# Altium integrated library USBtoTTL.IntLib: 9 symbols
Pins are listed as number, name and electrical type; pins without a type are passive.

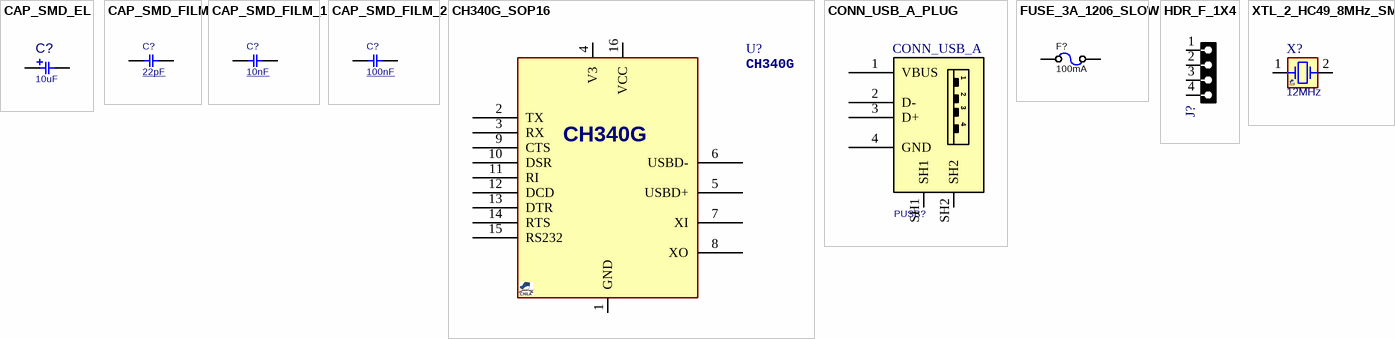
[diagram p0: symbols CAP_SMD_EL to XTL_2_HC49_8MHz_SMD]

## CAP_SMD_EL
designator C?, comment 10uF
CAP, THD, ELEC,; MANF_P#: MANF_PART#; PARAM2: -V; DESC: DESCRIPTION; DIST#: MOUSER; PARAM: 20%; PRICE: 10= -$; MANF: MANF; ASSEMBLY: ASSEMBLY; VALUE: 10uF
footprint C_EL_8 (Electrolytic Cap, Size E, Size F, 8.3X10)
footprint C_EL_4 (Electrolytic Cap, D: 4.3mm, Size B)
footprint C_EL_5 (Electrolytic Cap, D: 5.0mm, Size C)
footprint C_EL_6 (Electrolytic Cap, D: 6.3mm L: 7.7mm, Size D)
footprint C_EL_10 (Electrolytic Cap, 10.3x10.3mm)
footprint C_EL_12 (Electrolytic Cap, 12.5x13mm)
pins: 1, 2

## CAP_SMD_FILM
designator C?, comment 22pF
CAP, FILM, 680nF, 16V, Acryl, 20%, 1206; PARAM: Acrylic, MetallizedStacked, 20%, -40~85oC; MANF: Murata; PRICE: 100= 40$; DESC: -; MANF_P#: -; PARAM2: 16V; ASSEMBLY: ASSEMBLY; VALUE: 22pF
footprint C1206 (CHIP Capacitor, 3.2X1.6mm, 1206)
pins: 1, 2

## CAP_SMD_FILM_1
designator C?, comment 10nF
CAP, FILM, 680nF, 16V, Acryl, 20%, 1206; PARAM: Acrylic, MetallizedStacked, 20%, -40~85oC; MANF: Murata; PRICE: 100= 40$; DESC: -; MANF_P#: -; PARAM2: 16V; ASSEMBLY: ASSEMBLY; VALUE: 10nF
footprint C1206 (CHIP Capacitor, 3.2X1.6mm, 1206)
pins: 1, 2

## CAP_SMD_FILM_2
designator C?, comment 100nF
CAP, FILM, 680nF, 16V, Acryl, 20%, 1206; PARAM: Acrylic, MetallizedStacked, 20%, -40~85oC; MANF: Murata; PRICE: 100= 40$; DESC: -; MANF_P#: -; PARAM2: 16V; ASSEMBLY: ASSEMBLY; VALUE: 100nF
footprint C1206 (CHIP Capacitor, 3.2X1.6mm, 1206)
pins: 1, 2

## CH340G_SOP16
designator U?, comment CH340G
USB-UART; MANF_P#: CH340G; VALUE: CH340G
footprint SO_16
pins: 1 GND, 2 TX, 3 RX, 4 V3, 5 USBD+, 6 USBD-, 7 XI, 8 XO, 9 CTS, 10 DSR, 11 RI, 12 DCD, 13 DTR, 14 RTS, 15 RS232, 16 VCC

## CONN_USB_A_PLUG
designator PUSB?, comment CONN_USB_A
CONN, USB, A, PLUG, THD; VALUE: CONN_USB_A
footprint USB_A_PLG_RA (CONN, USB, Type A, PLUG, Right Angle, SMD, THD)
pins: 1 VBUS, 2 D-, 3 D+, 4 GND, SH1, SH2

## FUSE_3A_1206_SLOW
designator F?, comment 100mA
Fuse, 3A, 32VDC, 1206, SMD, Slow Blow; PARAM: 3A; 32VDC; Slow Blow; MANF: Bourns; MANF_P#: SF-1206SP300-2; PARAM2: 0.027Ohm; PRICE: 0.9$; VALUE: 100mA
footprint F1206 (FUSE, 1206, 3.2x1.6mm)
pins: 1, 2

## HDR_F_1X4
designator J?, comment HDRF4  (value not drawn)
CONN, HEADER, Female, pitch: 2.54mm, 4POS; VALUE: HDRF4
footprint HDR_F_1X4 (HEADER FEMALE pitch: 2.54mm)
pins: 1, 2, 3, 4

## XTL_2_HC49_8MHz_SMD
designator X?, comment 12MHz
Crystal MOST POPULAR ABL HC49 PACKAGE; MANF: ABRACON; MANF_P#: ABLS-8.000MHZ-B4-T; PARAM: 8MHz, 18pF, 30PPM, -20~70oC; PRICE: 0.3$; VALUE: 12MHz
footprint XTL_2_11X5 (SMD crystal resonator, ABL, ABLS, HC-49, HC49 11X4.5MM)
pins: 1 OSC1, 2 OSC2